# Altium footprint library FootPrintLib_4.PcbLib: 700 footprints (part 25 of 44)
Each footprint in its own frame and in the unit in brackets; x right, y up, seen from the top. Pads: shape width x height; smd on the part's side, far side on the other; paste and mask are expansions set on the pad; w line width, h text height; cw(c..) or ccw(c..) is an arc to the next point about the centre after c.
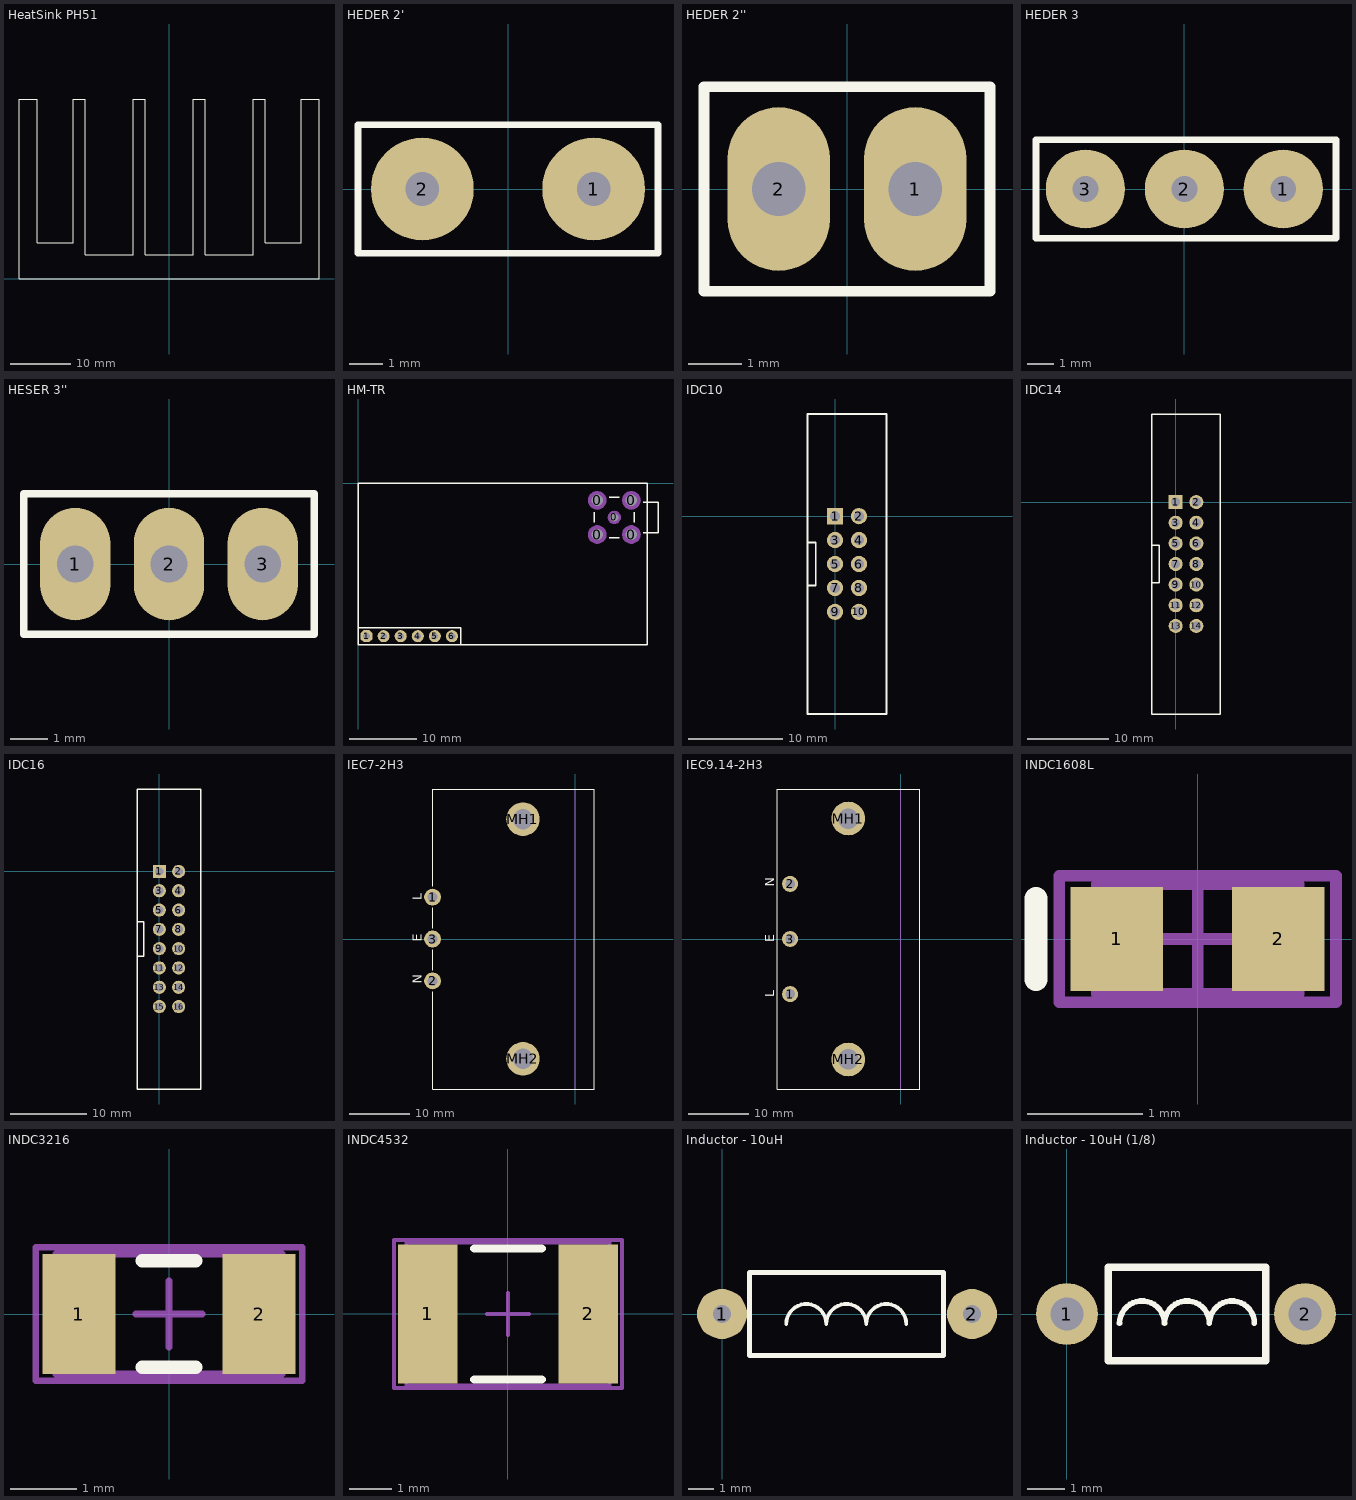
[diagram p24: the footprints below, top view; thin cyan lines are the x and y axes]

## HeatSink PH51 [mm]
Top Overlay:
  lines w0.178: -25.044,30.001 -21.999,30.001 -21.999,6.001 -16.001,6.001 -16.001,30.001 -13.999,30.001 -13.999,4.001 -6.001,4.001 -6.001,30.001 -3.999,30.001 -3.999,4.001 3.999,4.001 3.999,30.001 6.001,30.001 6.001,4.001 13.999,4.001 13.999,30.001 16.001,30.001 16.001,6.001 21.999,6.001 21.999,30.001 25.001,30.001 25.001,-0.001 -25.001,-0.001 -25.001,30.001
3D body: height 30.48, standoff 5.08, extent -25.001,-0.001 25.001,30.001

## HEDER 2' [mil]
pads (2):
  round 120 hole 39.37: 1(100,0) 2(-100,0)
Top Overlay:
  lines w8: -175,-75 -175,75 175,75 175,-75 -175,-75

## HEDER 2'' [mm]
pads (2):
  oval 1.905x3.048 hole 1: 1(1.27,0) 2(-1.27,0)
Top Overlay:
  lines w0.203: -2.667,-1.905 -2.667,1.905 2.667,1.905 2.667,-1.905 -2.667,-1.905

## HEDER 3 [mil]
pads (3):
  round 120 hole 39.37: 1(150,0) 2(0,0) 3(-150,0)
Top Overlay:
  lines w10: -225,-75 -225,75 230,75 230,-75 -225,-75

## HESER 3'' [mm]
pads (3):
  oval 1.905x3.048 hole 1: 1(-2.54,0) 2(0,0) 3(2.54,0)
Top Overlay:
  lines w0.203: -3.937,-1.905 3.937,-1.905 3.937,1.905 -3.937,1.905 -3.937,-1.905

## HM-TR [mm]
pads (11):
  round 2.8 on Mech15 hole 1.7: 0(35.56,-7.62) 0(35.56,-2.54) 0(40.64,-7.62) 0(40.64,-2.54)
  round 2 on Mech15 hole 1.2: 0(38.1,-5.08)
  oct 1.8x1.8 hole 1: 1(1.27,-22.733)
  round 1.8 hole 1: 2(3.81,-22.733) 3(6.35,-22.733) 4(8.89,-22.733) 5(11.43,-22.733) 6(13.97,-22.733)
Top Overlay:
  lines w0.2: 0,-21.463 15.24,-21.463 15.24,-24.003 ; 35.1,-5.82 35.1,-4.34 ; 37.36,-8.08 38.84,-8.08 ; 37.36,-2.08 38.84,-2.08 ; 41.1,-5.82 41.1,-4.34 ; 42.44,-7.33 44.6,-7.33 44.6,-2.83 42.44,-2.83
  lines w0.203: 0,-24 0,0 43,0 43,-24 0,-24

## IDC10 [mil]
pads (10):
  rect 68x68 hole 43: 1(0,0)
  round 68 hole 43: 2(100,0) 3(0,-100) 4(100,-100) 5(0,-200) 6(100,-200) 7(0,-300) 8(100,-300) 9(0,-400) 10(100,-400)
Top Overlay:
  lines w7: -115,-290 -80,-290 -80,-110 -115,-110 ; -115,-827 -115,427 215,427 215,-827 -115,-827

## IDC14 [mil]
pads (14):
  rect 68x68 hole 43: 1(0,0)
  round 68 hole 43: 2(100,0) 3(0,-100) 4(100,-100) 5(0,-200) 6(100,-200) 7(0,-300) 8(100,-300) 9(0,-400) 10(100,-400) 11(0,-500) 12(100,-500) 13(0,-600) 14(100,-600)
Top Overlay:
  lines w7: -115,-390 -80,-390 -80,-210 -115,-210 ; -115,-1027 215,-1027 215,427 -115,427 -115,-1027

## IDC16 [mil]
pads (16):
  rect 68x68 hole 43: 1(0,0)
  round 68 hole 43: 2(100,0) 3(0,-100) 4(100,-100) 5(0,-200) 6(100,-200) 7(0,-300) 8(100,-300) 9(0,-400) 10(100,-400) 11(0,-500) 12(100,-500) 13(0,-600) 14(100,-600) 15(0,-700) 16(100,-700)
Top Overlay:
  lines w7: -115,-440 -80,-440 -80,-260 -115,-260 ; -115,-1127 -115,427 215,427 215,-1127 -115,-1127
3D body "IDC 16.STEP": height 1069.11, standoff -98, extent -115,-1127 215,427

## IEC7-2H3 [mm] "Mains Power Outlet, IEC60 320-2-2 F, PC Flange Rear Mount"
height 30.4
pads (5):
  round 2.8 hole 1.7: 1(-23.8,7) 2(-23.8,-7) 3(-23.8,0)
  round 5.6 hole 3.4: MH1(-8.7,20) MH2(-8.7,-20)
Top Overlay:
  lines w0.2: -23.8,-8.8 -23.8,-25.05 3.2,-25.05 3.2,25.05 -23.8,25.05 -23.8,8.8 ; -23.8,-5.2 -23.8,-1.8 ; -23.8,1.8 -23.8,5.2
  text "L" at -25.6,6.5 h1.5
  text "E" at -25.6,-0.5 h1.5
  text "N" at -25.6,-7.5 h1.5
Mechanical 1:
  lines w0.1: 0,-25.05 0,25.05
  text "PCB Edge" at -0.4,-24.4 h0.5

## IEC9.14-2H3 [mm] "Mains Power Inlet, IEC60 320-1 C14, PC Flange Rear Mount"
height 27.8
pads (5):
  round 2.65 hole 1.6: 1(-18.35,-9.14) 2(-18.35,9.14) 3(-18.35,0)
  round 5.6 hole 3.4: MH1(-8.7,20) MH2(-8.7,-20)
Top Overlay:
  lines w0.2: -20.5,-24.9 -20.5,24.9 3.2,24.9 3.2,-24.9 -20.5,-24.9
  text "N" at -21,8.64 h1.5
  text "E" at -21,-0.5 h1.5
  text "L" at -21,-9.64 h1.5
Mechanical 1:
  lines w0.1: 0,-24.9 0,24.9
  text "PCB Edge" at -0.383,-24.4 h0.5

## INDC1608L [mm] "Chip Inductor, Body 1.6x0.8mm, IPC High Density"
height 0.55
pads (2):
  rect 0.8x0.9 smd: 1(-0.7,0) 2(0.7,0)
Top Overlay:
  lines w0.2: -1.4,-0.35 -1.4,0.35
Mechanical 13:
  lines w0.1: -0.875,-0.475 -0.875,0.475 0.875,0.475 0.875,-0.475 -0.875,-0.475
Mechanical 15:
  lines w0.1: -0.475,0 0.475,0 ; 0,-0.475 0,0.475 ; -1.2,-0.55 -1.2,0.55 1.2,0.55 1.2,-0.55 -1.2,-0.55
3D body: height 0.55, standoff 0, extent -0.875,-0.475 0.875,0.475

## INDC3216 [mm] "Chip Inductor, Body 3.2x1.6mm, IPC High Density"
height 0.55
pads (2):
  rect 1.1x1.8 smd: 1(-1.35,0) 2(1.35,0)
Top Overlay:
  lines w0.2: -0.4,-0.8 0.4,-0.8 ; -0.4,0.8 0.4,0.8
Mechanical 13:
  lines w0.1: -1.7,-0.9 1.7,-0.9 1.7,0.9 -1.7,0.9 -1.7,-0.9
Mechanical 15:
  lines w0.1: -0.5,0 0.5,0 ; 0,-0.5 0,0.5 ; -2,-1 2,-1 2,1 -2,1 -2,-1
3D body: height 0.55, standoff 0, extent -1.7,-0.9 1.7,0.9

## INDC4532 [mm] "Chip Inductor, Body 4.5x3.2mm, IPC High Density"
height 0.55
pads (2):
  rect 1.4x3.3 smd: 1(-1.9,0) 2(1.9,0)
Top Overlay:
  lines w0.2: -0.8,-1.55 0.8,-1.55 ; -0.8,1.55 0.8,1.55
Mechanical 13:
  lines w0.1: -2.4,-1.7 2.4,-1.7 2.4,1.7 -2.4,1.7 -2.4,-1.7
Mechanical 15:
  lines w0.1: -0.5,0 0.5,0 ; 0,-0.5 0,0.5 ; -2.7,-1.75 2.7,-1.75 2.7,1.75 -2.7,1.75 -2.7,-1.75
3D body: height 0.55, standoff 0, extent -2.4,-1.7 2.4,1.7

## Inductor - 10uH [mm]
pads (2):
  round 2 hole 0.7: 1(0,0) 2(10,0)
Top Overlay:
  lines w0.15: 2.571,-0.4 cw(c3.371,-0.4) 4.171,-0.4 cw(c4.971,-0.4) 5.771,-0.4 cw(c6.571,-0.4) 7.371,-0.4
  lines w0.2: 1.105,-1.67 8.865,-1.67 8.865,1.67 1.105,1.67 1.105,-1.67

## Inductor - 10uH (1/8) [mil]
pads (2):
  round 65 hole 35: 1(0,0) 2(250,0)
Top Overlay:
  lines w5.91: 55.12,-9.84 cw(c78.74,-9.84) 102.36,-9.84 cw(c125.98,-9.84) 149.61,-9.84 cw(c173.23,-9.84) 196.85,-9.84
  lines w7.87: 43.31,-49.21 43.31,49.21 208.66,49.21 208.66,-49.21 43.31,-49.21
3D body "Inductor.STEP": height 115.05, standoff -39.37, extent -10,-36.24 260,36.24